# EAGLE library part ZIF48 (library dsantoro-conn)
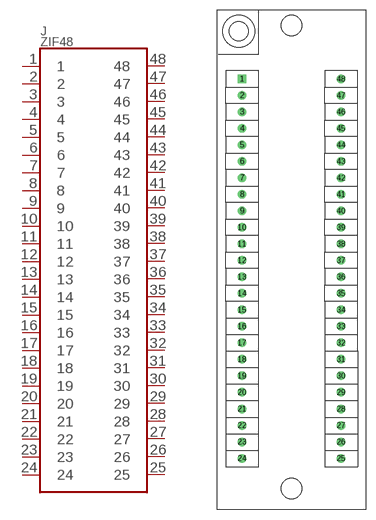
[diagram p19: symbol with the pads of ZIF48; footprint ZIF48]

Designator prefix J

## ZIF48  [ZIF48]
1  1
2  2
3  3
4  4
5  5
6  6
7  7
8  8
9  9
10  10
11  11
12  12
13  13
14  14
15  15
16  16
17  17
18  18
19  19
20  20
21  21
22  22
23  23
24  24
25  25
26  26
27  27
28  28
29  29
30  30
31  31
32  32
33  33
34  34
35  35
36  36
37  37
38  38
39  39
40  40
41  41
42  42
43  43
44  44
45  45
46  46
47  47
48  48

## Footprint ZIF48 (pad centres in mm)
drill 0.8 square: 1 0,0
drill 0.8: 2 0,-2.54; 3 0,-5.08; 4 0,-7.62; 5 0,-10.16; 6 0,-12.7; 7 0,-15.24; 8 0,-17.78; 9 0,-20.32; 10 0,-22.86; 11 0,-25.4; 12 0,-27.94; 13 0,-30.48; 14 0,-33.02; 15 0,-35.56; 16 0,-38.1; 17 0,-40.64; 18 0,-43.18; 19 0,-45.72; 20 0,-48.26; 21 0,-50.8; 22 0,-53.34; 23 0,-55.88; 24 0,-58.42; 25 15.24,-58.42; 26 15.24,-55.88; 27 15.24,-53.34; 28 15.24,-50.8; 29 15.24,-48.26; 30 15.24,-45.72; 31 15.24,-43.18; 32 15.24,-40.64; 33 15.24,-38.1; 34 15.24,-35.56; 35 15.24,-33.02; 36 15.24,-30.48; 37 15.24,-27.94; 38 15.24,-25.4; 39 15.24,-22.86; 40 15.24,-20.32; 41 15.24,-17.78; 42 15.24,-15.24; 43 15.24,-12.7; 44 15.24,-10.16; 45 15.24,-7.62; 46 15.24,-5.08; 47 15.24,-2.54; 48 15.24,0
hole 3.2 at 7.62,8.255
hole 3.2 at 7.62,-63.075